# Altium footprint library Diodes.PcbLib: 9 footprints
Each footprint in its own frame and in the unit in brackets; x right, y up, seen from the top. Pads: shape width x height; smd on the part's side, far side on the other; paste and mask are expansions set on the pad; w line width, h text height; cw(c..) or ccw(c..) is an arc to the next point about the centre after c.
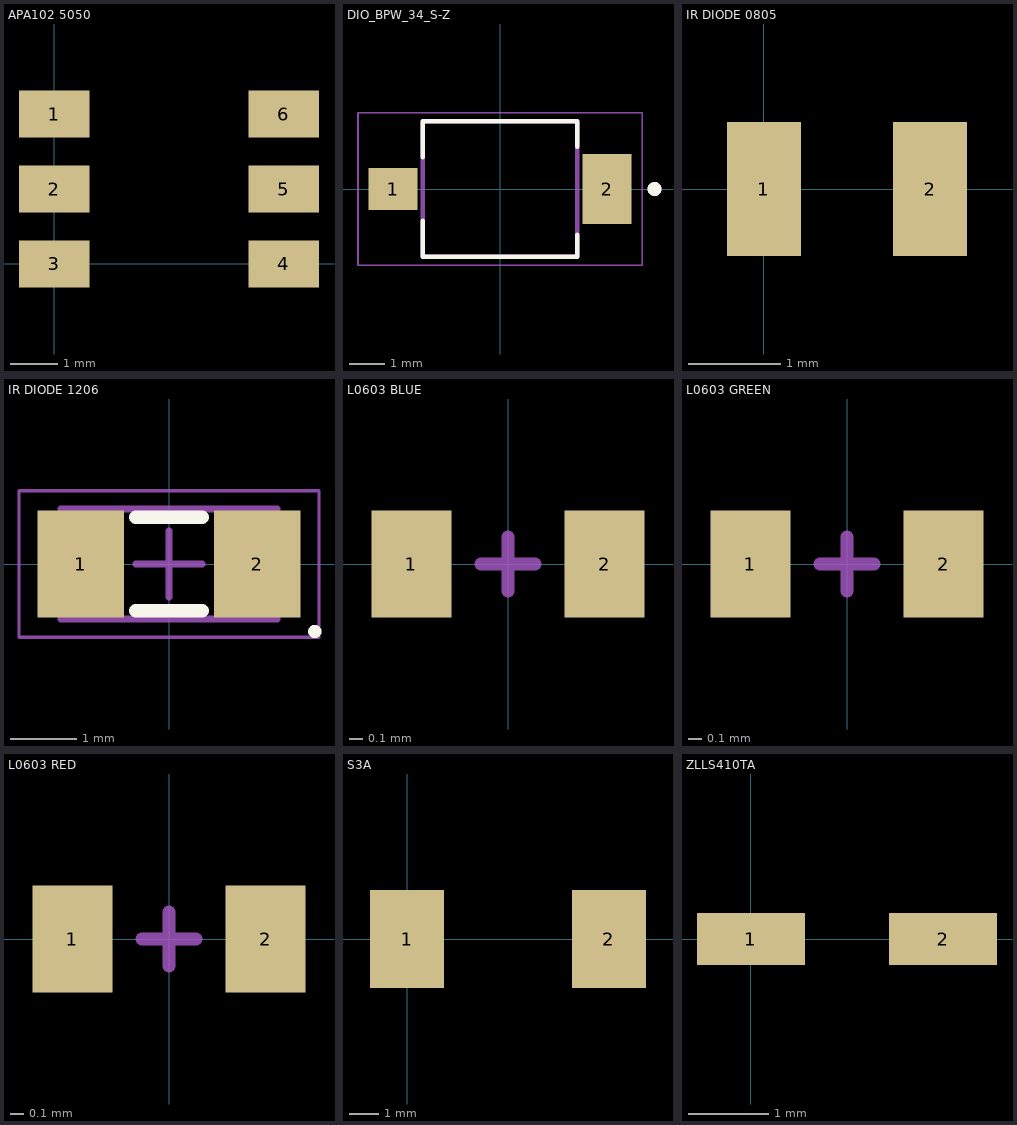
[diagram p0: the footprints below, top view; thin cyan lines are the x and y axes]

## APA102 5050 [mm]
pads (6):
  rect 1.5x1 smd: 1(0,3.2) 2(0,1.6) 3(0,0) 4(4.9,0) 5(4.9,1.6) 6(4.9,3.2)
3D body "User Library-APA102C.step": height 1.4, standoff -0.15, extent -0.35,-0.9 5.15,4.1

## DIO_BPW_34_S-Z [mm]
pads (2):
  rect 1.4x1.2 smd paste-2 mask+0: 1(-3.05,0)
  rect 1.4x2 smd paste-2 mask+0: 2(3.05,0)
Top Overlay:
  circle w0.2: c4.4,0 r0.1
  lines w0.127: -2.2,-0.91 -2.2,-1.925 2.2,-1.925 2.2,-1.31 ; -2.2,0.91 -2.2,1.925 2.2,1.925 2.2,1.21
Top Paste:
  region: -2.4,-0.55 -3.7,-0.55 -3.7,0.55 -2.4,0.55
  region: 3.7,-0.95 2.4,-0.95 2.4,0.95 3.7,0.95
Top Solder:
  region: 3.8,-1.05 2.3,-1.05 2.3,1.05 3.8,1.05
  region: -2.3,-0.65 -3.8,-0.65 -3.8,0.65 -2.3,0.65
Mechanical 13:
  circle w0.2: c4.4,0 r0.1
  lines w0.127: -2.2,-1.925 2.2,-1.925 2.2,1.925 -2.2,1.925 -2.2,-1.925
Mechanical 15:
  lines w0.05: -4.05,-2.175 4.05,-2.175 4.05,2.175 -4.05,2.175 -4.05,-2.175
3D body "VBPW34S--3DModel-STEP-56544.STEP": height 1.48, standoff -0.02, extent -3.2,-1.95 3.2,1.95

## IR DIODE 0805 [mm]
pads (2):
  rect 0.8x1.45 smd: 1(0,0) 2(1.8,0)
3D body "ALSRobot-LED 0805.step": height 1.1, standoff 0, extent -0.11,-0.625 1.91,0.625

## IR DIODE 1206 [mm] "Chip Diode, 2-Leads, Body 3,20x1,60mm, IPC Medium Density"
height 1.55
pads (2):
  rect 1.3x1.6 smd: 1(-1.325,0) 2(1.325,0)
Top Overlay:
  circle w0.1: c2.187,-1.012 r0.05
  lines w0.2: -0.5,-0.7 0.5,-0.7 ; -0.5,0.7 0.5,0.7
Top Courtyard:
  lines w0.05: -2.25,-1.1 -2.25,1.1 2.25,1.1 2.25,-1.1 -2.25,-1.1
  lines w0.1: -0.5,0 0.5,0 ; 0,-0.5 0,0.5
Mechanical 13:
  lines w0.1: -1.625,-0.825 -1.625,0.825 1.625,0.825 1.625,-0.825 -1.625,-0.825
3D body "IR DIODE 12061.step": height 1.55, standoff 0, extent -1.625,-0.825 1.625,0.825

## L0603 BLUE [mm]
pads (2):
  rect 0.6x0.8 smd: 1(-0.725,0) 2(0.725,0)
Top Courtyard:
  lines w0.1: -0.2,0 0.2,0 ; 0,-0.2 0,0.2
3D body "User Library-LED_0603_B.STEP": height 0.6, standoff 0, extent -0.8,-0.4 0.8,0.4

## L0603 GREEN [mm]
pads (2):
  rect 0.6x0.8 smd: 1(-0.725,0) 2(0.725,0)
Top Courtyard:
  lines w0.1: -0.2,0 0.2,0 ; 0,-0.2 0,0.2
3D body "User Library-LED_0603_G.STEP": height 0.6, standoff 0, extent -0.8,-0.4 0.8,0.4

## L0603 RED [mm]
pads (2):
  rect 0.6x0.8 smd: 1(-0.725,0) 2(0.725,0)
Top Courtyard:
  lines w0.1: -0.2,0 0.2,0 ; 0,-0.2 0,0.2
3D body "User Library-LED_0603_R.STEP": height 0.6, standoff 0, extent -0.8,-0.4 0.8,0.4

## S3A [mm]
pads (2):
  rect 2.5x3.3 smd: 1(0,0) 2(6.8,0)
3D body "User Library-DO-214AB-SMC.step": height 2.4, standoff -0.05, extent -0.55,-2.85 7.25,3.05

## ZLLS410TA [mm] "SOD-323, 2 pins"
pads (2):
  rect 1.35x0.65 smd: 1(0,0) 2(2.4,0)
3D body "User Library-Mini2-F4-B.STEP": height 0.8, standoff -0.03, extent -0.56,-0.81 2.94,0.79